# EAGLE library part ICM-42605 (library RoboJackets-Sensors)
Accelerometer, Gyroscope, 6 Axis Sensor I²C, I3C℠, SPI Output
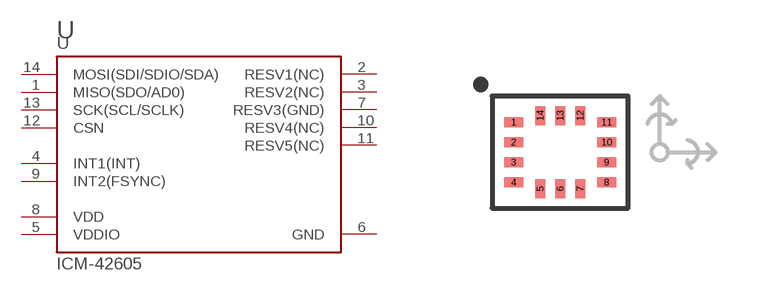
[diagram p2: symbol with the pads of ICM-442605-2530091; footprint ICM-442605-2530091]

Designator prefix U

## ICM-42605 (DKPN: 1428-1152-1-ND)  [ICM-442605-2530091]
1  MISO(SDO/AD0)
2  RESV1(NC)
3  RESV2(NC)
4  INT1(INT)
5  VDDIO
6  GND
7  RESV3(GND)
8  VDD
9  INT2(FSYNC)
10  RESV4(NC)
11  RESV5(NC)
12  CSN
13  SCK(SCL/SCLK)
14  MOSI(SDI/SDIO/SDA)

## Footprint ICM-442605-2530091 (pad centres in mm)
smd 0.475 x 0.25: 1 -1.163,0.75; 2 -1.163,0.25; 3 -1.163,-0.25; 4 -1.163,-0.75; 8 1.163,-0.75; 9 1.163,-0.25; 10 1.163,0.25; 11 1.163,0.75
smd 0.25 x 0.475: 5 -0.5,-0.912; 6 0,-0.912; 7 0.5,-0.912; 12 0.5,0.912; 13 0,0.912; 14 -0.5,0.912